# Altium footprint library PCB - LED - BRIGHT LED BL-HBGGAJA32N.PCBLIB: 1 footprints
Each footprint in its own frame and in the unit in brackets; x right, y up, seen from the top. Pads: shape width x height; smd on the part's side, far side on the other; paste and mask are expansions set on the pad; w line width, h text height; cw(c..) or ccw(c..) is an arc to the next point about the centre after c.
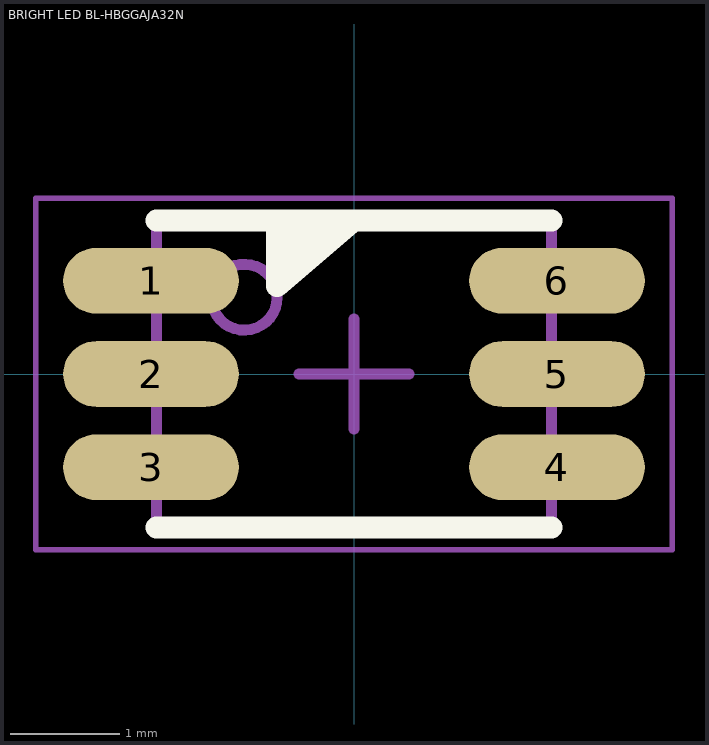
[diagram p0: the footprint, top view; thin cyan lines are the x and y axes]

## BRIGHT LED BL-HBGGAJA32N [mm] "SOJ, 6-Leads, Body 3.5x2.80mm"
height 1.4
pads (6):
  oval 1.6x0.6 smd: 1(-1.85,0.85) 2(-1.85,0) 3(-1.85,-0.85) 4(1.85,-0.85) 5(1.85,0) 6(1.85,0.85)
Top Overlay:
  region: -0.7,1.4 -0.7,0.8 -0.6,0.8 0,1.4
  lines w0.2: -1.8,-1.4 1.8,-1.4 ; -1.8,1.4 1.8,1.4 ; -0.7,1.4 -0.7,0.8 0,1.4
Mechanical 13:
  circle w0.1: c-1,0.7 r0.3
  lines w0.1: -1.8,-1.4 1.8,-1.4 1.8,1.4 -1.8,1.4 -1.8,-1.4
Mechanical 15:
  lines w0.05: -2.9,-1.6 2.9,-1.6 2.9,1.6 -2.9,1.6 -2.9,-1.6
  lines w0.1: -0.5,0 0.5,0 ; 0,-0.5 0,0.5
3D body "Bright Opto - BL-HBGGAJA32.step": height 1.4, standoff 0, extent -1.8,-1.4 1.8,1.4